# Altium schematic symbol library LT3751IFE#PBF.SchLib: 1 symbol
Pins are listed as number, name and electrical type; pins without a type are passive.

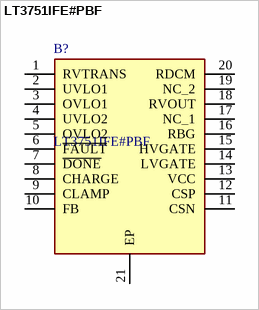
[diagram p0: symbol LT3751IFE#PBF]

## LT3751IFE#PBF
designator B?
Controller 5V to 24V Automotive 20-Pin TSSOP EP Tube; Manufacturer_Name: Analog Devices; Geometry.Height: 1.2mm; Mouser Part Number: 584-LT3751IFE#PBF; Mouser Price/Stock: https://www.mouser.co.uk/ProductDetail/Analog-Devices/LT3751IFEPBF?qs=hVkxg5c3xu8wGIOCrD9eEw%3D%3D; Manufacturer_Part_Number: LT3751IFE#PBF; Datasheet Link: https://www.arrow.com/en/products/lt3751ifepbf/analog-devices?region=nac
footprint SOP65P640X120-21N
pins: 1 RVTRANS, 2 UVLO1, 3 OVLO1, 4 UVLO2, 5 OVLO2, 6 ~{FAULT}, 7 ~{DONE}, 8 CHARGE, 9 CLAMP, 10 FB, 11 CSN, 12 CSP, 13 VCC, 14 LVGATE, 15 HVGATE, 16 RBG, 17 NC_1, 18 RVOUT, 19 NC_2, 20 RDCM, 21 EP